# EAGLE library part AY-3-8912 (library oldchips)
Programmable sound generator
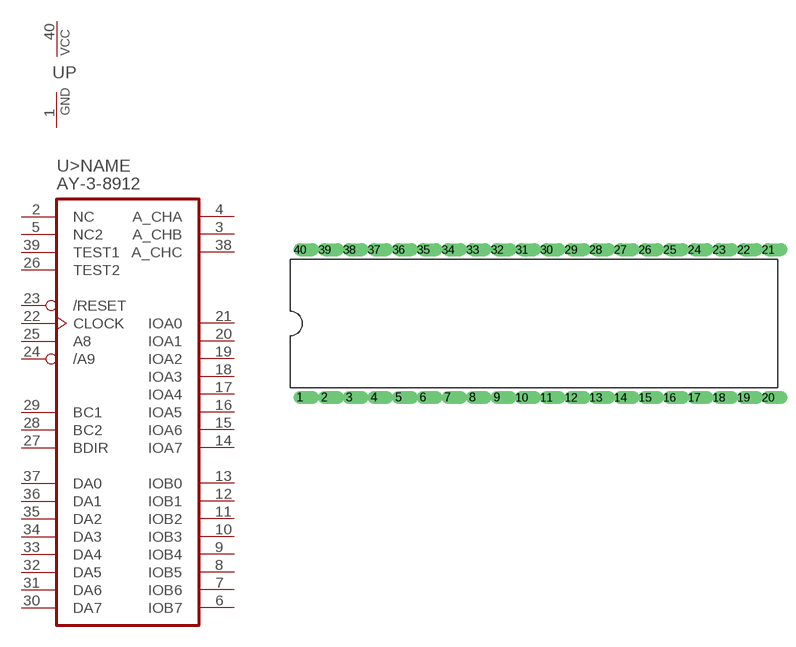
[diagram p1: symbol with the pads of DIL40; footprint DIL40]

Designator prefix U; gates >NAME=AY-3-8912 P=PWRN

## AY-3-8912  [DIL40]
1  P:GND  pwr
2  >NAME:NC  nc
3  >NAME:A_CHB  out
4  >NAME:A_CHA  out
5  >NAME:NC2  nc
6  >NAME:IOB7
7  >NAME:IOB6
8  >NAME:IOB5
9  >NAME:IOB4
10  >NAME:IOB3
11  >NAME:IOB2
12  >NAME:IOB1
13  >NAME:IOB0
14  >NAME:IOA7
15  >NAME:IOA6
16  >NAME:IOA5
17  >NAME:IOA4
18  >NAME:IOA3
19  >NAME:IOA2
20  >NAME:IOA1
21  >NAME:IOA0
22  >NAME:CLOCK  in
23  >NAME:/RESET  in
24  >NAME:/A9  in
25  >NAME:A8  in
26  >NAME:TEST2  in
27  >NAME:BDIR  in
28  >NAME:BC2  in
29  >NAME:BC1  in
30  >NAME:DA7
31  >NAME:DA6
32  >NAME:DA5
33  >NAME:DA4
34  >NAME:DA3
35  >NAME:DA2
36  >NAME:DA1
37  >NAME:DA0
38  >NAME:A_CHC  out
39  >NAME:TEST1  in
40  P:VCC  pwr

## Footprint DIL40 (pad centres in mm)
Dual In Line
drill 0.813 offset: 1 -24.13,-7.62; 2 -21.59,-7.62; 3 -19.05,-7.62; 4 -16.51,-7.62; 5 -13.97,-7.62; 6 -11.43,-7.62; 7 -8.89,-7.62; 8 -6.35,-7.62; 9 -3.81,-7.62; 10 -1.27,-7.62; 11 1.27,-7.62; 12 3.81,-7.62; 13 6.35,-7.62; 14 8.89,-7.62; 15 11.43,-7.62; 16 13.97,-7.62; 17 16.51,-7.62; 18 19.05,-7.62; 19 21.59,-7.62; 20 24.13,-7.62; 21 24.13,7.62; 22 21.59,7.62; 23 19.05,7.62; 24 16.51,7.62; 25 13.97,7.62; 26 11.43,7.62; 27 8.89,7.62; 28 6.35,7.62; 29 3.81,7.62; 30 1.27,7.62; 31 -1.27,7.62; 32 -3.81,7.62; 33 -6.35,7.62; 34 -8.89,7.62; 35 -11.43,7.62; 36 -13.97,7.62; 37 -16.51,7.62; 38 -19.05,7.62; 39 -21.59,7.62; 40 -24.13,7.62